# EAGLE library part BSS138-4CH-LVL-BRD (library custom_components)
BSS138 4-Channel Level Shifter A 4-channel level shifter board using the BSS138 transistor.
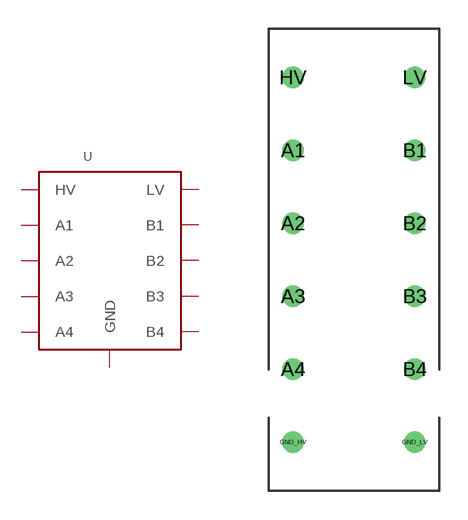
[diagram p0: symbol with the pads of BSS138-LVL-FOOT; footprint BSS138-LVL-FOOT]

Designator prefix -

## BSS138-4CH-LVL-BRD  [BSS138-LVL-FOOT]
A1  A1
A2  A2
A3  A3
A4  A4
B1  B1
B2  B2
B3  B3
B4  B4
GND_HV  GND  pwr
GND_LV  GND  pwr
HV  HV  pwr
LV  LV  pwr

## Footprint BSS138-LVL-FOOT (pad centres in mm)
drill 0.6: A1 -3.81,2.54; A2 -3.81,-1.27; A3 -3.81,-5.08; A4 -3.81,-8.89; B1 2.54,2.54; B2 2.54,-1.27; B3 2.54,-5.08; B4 2.54,-8.89; GND_HV -3.81,-12.7; GND_LV 2.54,-12.7; HV -3.81,6.35; LV 2.54,6.35